# Altium schematic symbol library HMC833.SchLib: 1 symbol
Pins are listed as number, name and electrical type; pins without a type are passive.

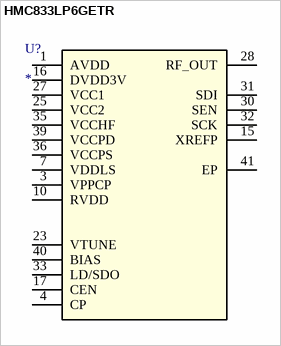
[diagram p0: symbol HMC833LP6GETR]

## HMC833LP6GETR
designator U?
FRACTIONAL-N PLL WITH INTEGRATED VCO 25 - 6000 MHz; Copyright: Copyright (C) 2018 Accelerated Designs. All rights reserved; RefDes: RefDes; Type: DEV; Value: Value
footprint HCP_40_1
pins: 1 AVDD, 3 VPPCP, 4 CP, 7 VDDLS, 10 RVDD, 15 XREFP, 16 DVDD3V, 17 CEN, 23 VTUNE, 25 VCC2, 27 VCC1, 28 RF_OUT, 30 SEN, 31 SDI, 32 SCK, 33 LD/SDO, 35 VCCHF, 36 VCCPS, 39 VCCPD, 40 BIAS, 41 EP